# Altium footprint library JNHuaMao.PCBLIB: 1 footprints
Each footprint in its own frame and in the unit in brackets; x right, y up, seen from the top. Pads: shape width x height; smd on the part's side, far side on the other; paste and mask are expansions set on the pad; w line width, h text height; cw(c..) or ccw(c..) is an arc to the next point about the centre after c.
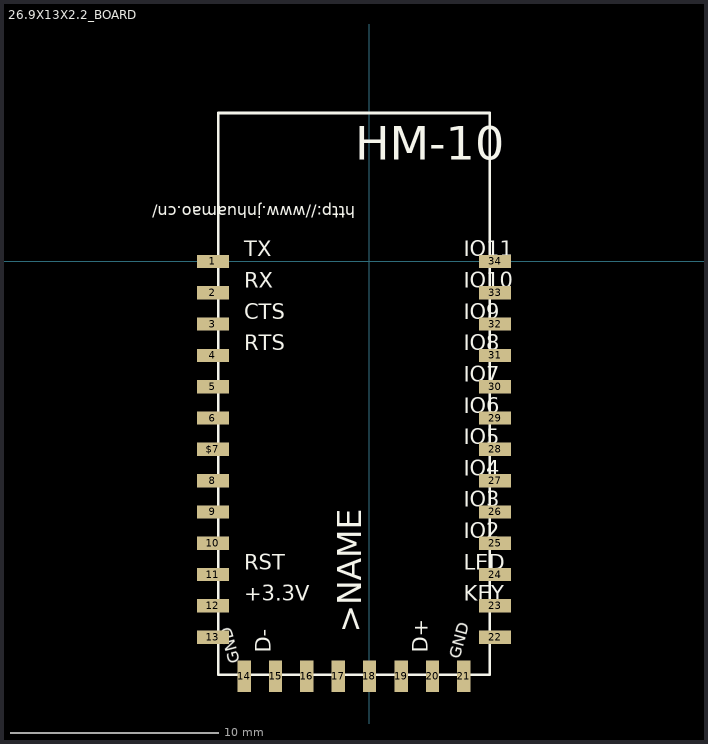
[diagram p0: the footprint, top view; thin cyan lines are the x and y axes]

## 26.9X13X2.2_BOARD [mil]
pads (34):
  rect 60x25 smd: 1(-295.28,0) 2(-295.28,-59.06) 3(-295.28,-118.11) 4(-295.28,-177.17) 5(-295.28,-236.22) 6(-295.28,-295.28) 8(-295.28,-413.39) 9(-295.28,-472.44) 10(-295.28,-531.5) 11(-295.28,-590.55) 12(-295.28,-649.61) 13(-295.28,-708.66) 22(237,-708.66) 23(237,-649.61) 24(237,-590.55) 25(237,-531.5) 26(237,-472.44) 27(237,-413.39) 28(237,-354.33) 29(237,-295.28) 30(237,-236.22) 31(237,-177.17) 32(237,-118.11) 33(237,-59.06) 34(237,0) $7(-295.28,-354.33)
  rect 25x60 smd: 14(-236.22,-782.48) 15(-177.17,-782.48) 16(-118.11,-782.48) 17(-59.06,-782.48) 18(0,-782.48) 19(60,-782.48) 20(119,-782.48) 21(178,-782.48)
Top Overlay:
  lines w5: -285.43,-779.53 227,-779.53 227,280 -285.43,280 -285.43,-779.53
  text "http://www.jnhuamao.cn/" at -27.17,112 h37.2
  text "TX" at -236.22,0 h49.6
  text "RX" at -236.22,-59.06 h49.6
  text "CTS" at -236.22,-118.11 h49.6
  text "RTS" at -236.22,-177.17 h49.6
  text "RST" at -236.22,-590.55 h49.6
  text "+3.3V" at -236.22,-649.61 h49.6
  text "GND" at -236.22,-752.95 h37.2
  text "D-" at -177.17,-738.19 h49.6
  text "D+" at 119,-738.19 h49.6
  text "GND" at 178,-752.95 h37.2
  text "KEY" at 178,-649.61 h49.6
  text "LED" at 178,-590.55 h49.6
  text "IO2" at 178,-531.5 h49.6
  text "IO3" at 178,-472.44 h49.6
  text "IO4" at 178,-413.39 h49.6
  text "IO5" at 178,-354.33 h49.6
  text "IO6" at 178,-295.28 h49.6
  text "IO7" at 178,-236.22 h49.6
  text "IO8" at 178,-177.17 h49.6
  text "IO9" at 178,-118.11 h49.6
  text "IO10" at 178,-59.06 h49.6
  text "IO11" at 178,0 h49.6
  text "HM-10" at -27.17,171 h108.5
  text ">NAME" at 0,-700 h77.5